# EAGLE library part 645006114822 (library Wire-to-Board (rev18a))
WR-WTB 3.96mm Male Locking Header, 6 Pins=>Code : Con_WTB_3.96_PCB_THT_645006114822 <http://katalog.we-online.de/media/thumbs2/eican/thb_Con_WTB_3.96_PCB_THT_6450xx114822_pf2.jpg> Details see: http://katalog.we-online.de/en/em/WTB_3_96_MALE_LOCKING_HEADER_6450XX114822 Created 2014-06-05, Karrer Zheng 2014 (C) Würth Elektronik
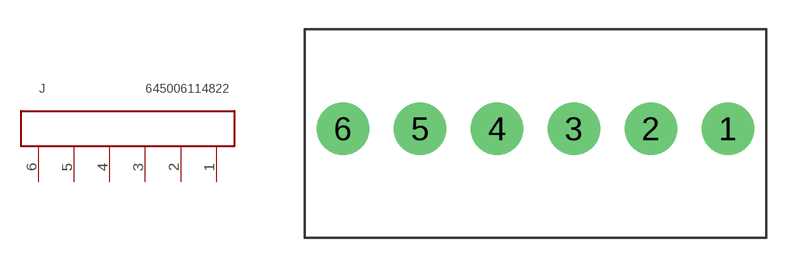
[diagram p0: symbol with the pads of 645006114822; footprint 645006114822]

Designator prefix J

## 645006114822  [645006114822]
1  1  pas
2  2  pas
3  3  pas
4  4  pas
5  5  pas
6  6  pas

## Footprint 645006114822 (pad centres in mm)
WR-WTB 3.96mm Male Locking Header, 6 Pins
drill 1.8: 1 9.9,0; 2 5.94,0; 3 1.98,0; 4 -1.98,0; 5 -5.94,0; 6 -9.9,0